# EAGLE library part FT2232H (library kmod-ics)
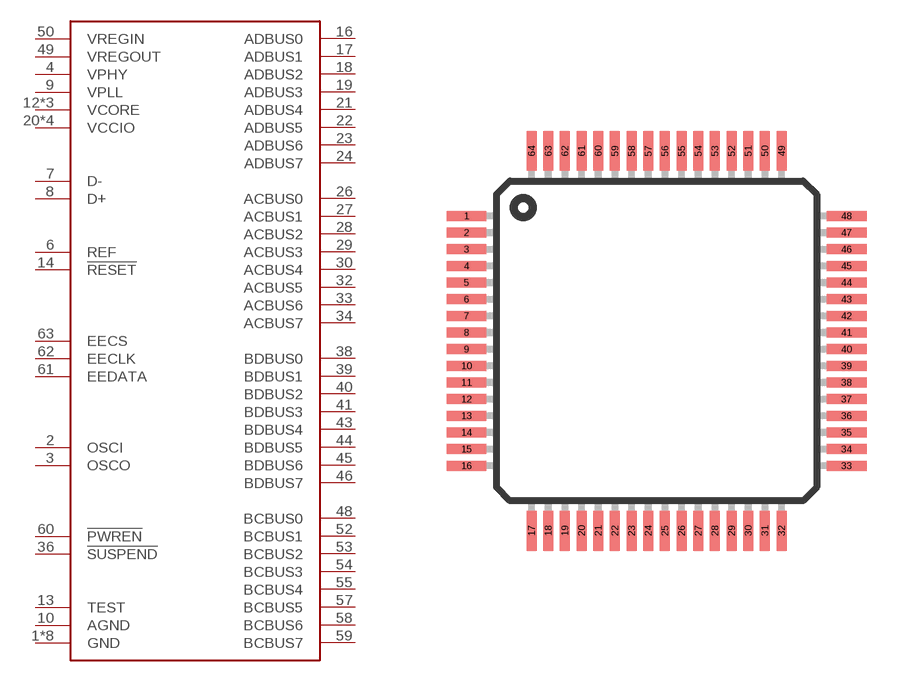
[diagram p13: symbol with the pads of TQFP64_LONGPAD; footprint TQFP64_LONGPAD]

Designator prefix IC

## FT2232HL  [TQFP64_LONGPAD]
1  GND  in
2  OSCI  in
3  OSCO
4  VPHY  in
5  GND  in
6  REF  in
7  D-  in
8  D+  in
9  VPLL  in
10  AGND  in
11  GND  in
12  VCORE  in
13  TEST  in
14  !RESET  in
15  GND  in
16  ADBUS0
17  ADBUS1
18  ADBUS2
19  ADBUS3
20  VCCIO  in
21  ADBUS4
22  ADBUS5
23  ADBUS6
24  ADBUS7
25  GND  in
26  ACBUS0
27  ACBUS1
28  ACBUS2
29  ACBUS3
30  ACBUS4
31  VCCIO  in
32  ACBUS5
33  ACBUS6
34  ACBUS7
35  GND  in
36  !SUSPEND  out
37  VCORE  in
38  BDBUS0
39  BDBUS1
40  BDBUS2
41  BDBUS3
42  VCCIO  in
43  BDBUS4
44  BDBUS5
45  BDBUS6
46  BDBUS7
47  GND  in
48  BCBUS0
49  VREGOUT  out
50  VREGIN
51  GND  in
52  BCBUS1
53  BCBUS2
54  BCBUS3
55  BCBUS4
56  VCCIO  in
57  BCBUS5
58  BCBUS6
59  BCBUS7
60  !PWREN  out
61  EEDATA
62  EECLK
63  EECS
64  VCORE  in

## Footprint TQFP64_LONGPAD (pad centres in mm)
Thin Quad Flat Pack package type TQ
smd 1.2 x 0.3: 1 -5.7,3.75; 2 -5.7,3.25; 3 -5.7,2.75; 4 -5.7,2.25; 5 -5.7,1.75; 6 -5.7,1.25; 7 -5.7,0.75; 8 -5.7,0.25; 9 -5.7,-0.25; 10 -5.7,-0.75; 11 -5.7,-1.25; 12 -5.7,-1.75; 13 -5.7,-2.25; 14 -5.7,-2.75; 15 -5.7,-3.25; 16 -5.7,-3.75; 33 5.7,-3.75; 34 5.7,-3.25; 35 5.7,-2.75; 36 5.7,-2.25; 37 5.7,-1.75; 38 5.7,-1.25; 39 5.7,-0.75; 40 5.7,-0.25; 41 5.7,0.25; 42 5.7,0.75; 43 5.7,1.25; 44 5.7,1.75; 45 5.7,2.25; 46 5.7,2.75; 47 5.7,3.25; 48 5.7,3.75
smd 0.3 x 1.2: 17 -3.75,-5.7; 18 -3.25,-5.7; 19 -2.75,-5.7; 20 -2.25,-5.7; 21 -1.75,-5.7; 22 -1.25,-5.7; 23 -0.75,-5.7; 24 -0.25,-5.7; 25 0.25,-5.7; 26 0.75,-5.7; 27 1.25,-5.7; 28 1.75,-5.7; 29 2.25,-5.7; 30 2.75,-5.7; 31 3.25,-5.7; 32 3.75,-5.7; 49 3.75,5.7; 50 3.25,5.7; 51 2.75,5.7; 52 2.25,5.7; 53 1.75,5.7; 54 1.25,5.7; 55 0.75,5.7; 56 0.25,5.7; 57 -0.25,5.7; 58 -0.75,5.7; 59 -1.25,5.7; 60 -1.75,5.7; 61 -2.25,5.7; 62 -2.75,5.7; 63 -3.25,5.7; 64 -3.75,5.7